# EAGLE library part 64901021022 (library Wurth_Elektronik_Electromechanic_Wire_to_Board_Connectors_rev16a)
WR-MPC4-4.20mm Male Dual Row Angled Header with Mounting Flanges for Screw-in Retention,10 pins=>Code : Con_WTB_MPC4_2_PCB_64901021022 <http://katalog.we-online.de/media/thumbs2/eican/thb_Con_WTB_MPC4_2_PCB_6490xx21022_pf2.jpg> Details see: http://katalog.we-online.de/en/em/649_0xx_210_22 Created 2014-06-06, Karrer Zheng 2014 (C) Würth Elektronik
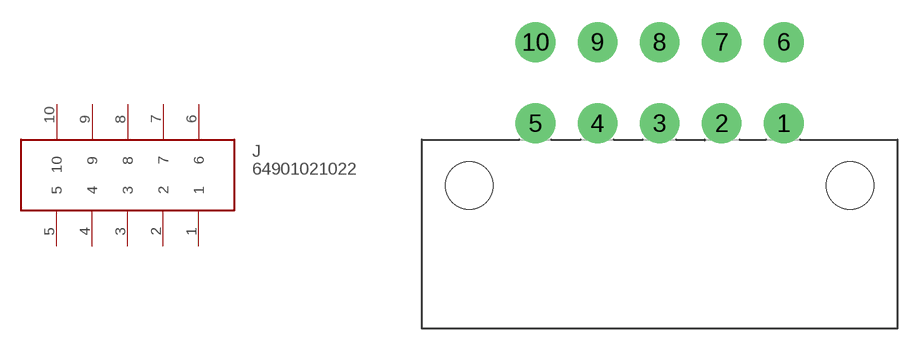
[diagram p285: symbol with the pads of 64901021022; footprint 64901021022]

Designator prefix J

## 64901021022  [64901021022]
1  1
2  2
3  3
4  4
5  5
6  6
7  7
8  8
9  9
10  10

## Footprint 64901021022 (pad centres in mm)
WR-MPC4-4.20mm Male Dual Row Angled Header with Mounting Flanges for Screw-in Retention,10 pins
drill 1.8: 1 8.4,4.2; 2 4.2,4.2; 3 0,4.2; 4 -4.2,4.2; 5 -8.4,4.2; 6 8.4,9.7; 7 4.2,9.7; 8 0,9.7; 9 -4.2,9.7; 10 -8.4,9.7
hole 3.2 at -12.9,0
hole 3.2 at 12.9,0